# EAGLE library part OPA2376 (library TI)
Dual, Precision Low Noise Operational Amplifier
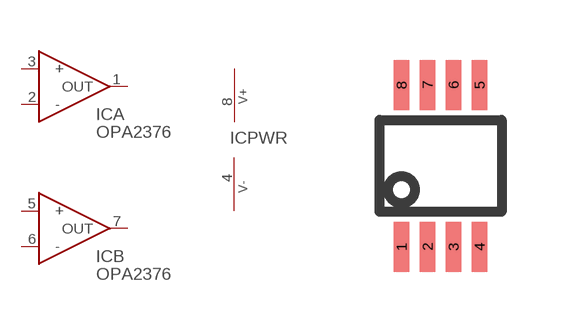
[diagram p15: symbol with the pads of MSOP-8; footprint MSOP-8]

Designator prefix IC; gates A=OPAMP B=OPAMP PWR=ICPWR-V+-V-

## OPA2376DGK  [MSOP-8]
1  A:OUT
2  A:-
3  A:+
4  PWR:V-  pwr
5  B:+
6  B:-
7  B:OUT
8  PWR:V+  pwr

## Footprint MSOP-8 (pad centres in mm)
Texas Instruments MSOP8 package, 0.65mm pitch, without pad
smd 0.38 x 1.25: 1 -0.975,-2.025; 2 -0.325,-2.025; 3 0.325,-2.025; 4 0.975,-2.025; 5 0.975,2.025; 6 0.325,2.025; 7 -0.325,2.025; 8 -0.975,2.025